# Altium footprint library connector board to board.PcbLib: 2 footprints
Each footprint in its own frame and in the unit in brackets; x right, y up, seen from the top. Pads: shape width x height; smd on the part's side, far side on the other; paste and mask are expansions set on the pad; w line width, h text height; cw(c..) or ccw(c..) is an arc to the next point about the centre after c.
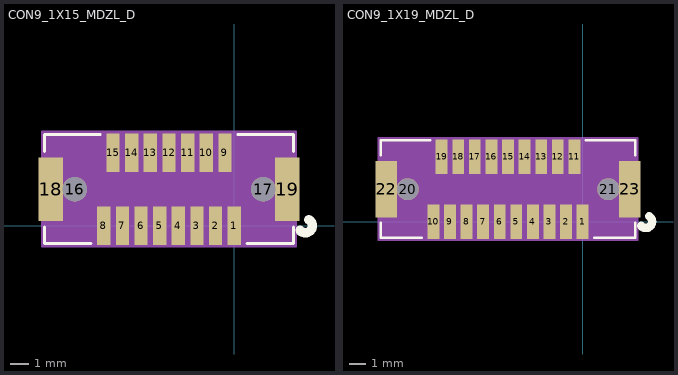
[diagram p0: the footprints below, top view; thin cyan lines are the x and y axes]

## CON9_1X15_MDZL_D [mil]
pads (19):
  rect 28x82 smd paste+0 mask+0: 1(0,0) 2(-39.37,0) 3(-78.74,0) 4(-118.11,0) 5(-157.48,0) 6(-196.85,0) 7(-236.22,0) 8(-275.59,0) 9(-19.69,154) 10(-59.06,154) 11(-98.43,154) 12(-137.8,154) 13(-177.17,154) 14(-216.54,154) 15(-255.91,154)
  round 52 hole 52: 16(-336.8,77) 17(61.2,77)
  rect 51x134 smd: 18(-387.8,77) 19(112.2,77)
Top Overlay:
  lines w6: -400.8,-3.1 -400.8,-38 -302.69,-38 ; -400.8,157.1 -400.8,193 -283.01,193 ; 7.41,193 125.2,193 125.2,157.1 ; 27.1,-38 125.2,-38 125.2,-3.1
  lines w20: 139.07,-10.05 ccw(c150.2,0) 165.2,0 ccw(c150.2,0) 157.8,12.93
Bottom Overlay:
  circle w20: c150.2,0 r15
Mechanical 13:
  circle w20: c0,75 r15
  lines w1: -395.8,-33 -395.8,188 120.2,188 120.2,-33 -395.8,-33
Mechanical 15:
  region: 120.2,188 -395.8,188 -395.8,-33 120.2,-33
  region: 130.2,198 -405.8,198 -405.8,-43 130.2,-43
  lines w6: -405.8,-43 130.2,-43 130.2,198 -405.8,198 -405.8,-43
3D body: height 10, standoff 0, extent 0,0 10,10
3D body "DF9-15P-1V.stp": height 130.42, standoff -38.87, extent -395.67,-33.46 120.08,187.01

## CON9_1X19_MDZL_D [mil]
pads (23):
  rect 28x82 smd paste+0 mask+0: 1(0,0) 2(-39.37,0) 3(-78.74,0) 4(-118.11,0) 5(-157.48,0) 6(-196.85,0) 7(-236.22,0) 8(-275.59,0) 9(-314.96,0) 10(-354.33,0) 11(-19.69,154) 12(-59.06,154) 13(-98.43,154) 14(-137.8,154) 15(-177.17,154) 16(-216.54,154) 17(-255.91,154) 18(-295.28,154) 19(-334.65,154)
  round 52 hole 52: 20(-415.17,77) 21(60.83,77)
  rect 51x134 smd: 22(-466.17,77) 23(111.83,77)
Top Overlay:
  lines w6: -479.17,-3.1 -479.17,-38 -381.43,-38 ; -479.17,157.1 -479.17,193 -361.75,193 ; 7.41,193 124.83,193 124.83,157.1 ; 27.1,-38 124.83,-38 124.83,-3.1
  lines w20: 138.7,-10.05 ccw(c149.83,0) 164.83,0 ccw(c149.83,0) 157.43,12.93
Bottom Overlay:
  circle w20: c149.83,0 r15
Mechanical 13:
  circle w20: c0,75 r15
  lines w1: -474.17,-33 -474.17,188 119.83,188 119.83,-33 -474.17,-33
Mechanical 15:
  region: 119.83,188 -474.17,188 -474.17,-33 119.83,-33
  region: 129.83,198 -484.17,198 -484.17,-43 129.83,-43
  lines w6: -484.17,-43 129.83,-43 129.83,198 -484.17,198 -484.17,-43
3D body "DF9-19P-1V.stp": height 130.42, standoff -38.87, extent -475.39,-32.48 119.1,187.99
3D body: height 10, standoff 0, extent 0,0 10,10